# EAGLE library part SN74V245-7PAG (library SN74V245-7PAG)
SN74V245-7PAG, FIFO Memory Dual 4K x 18 bit Uni-Directional 5ns 133MHz 3.3V 64-Pin TQFP Source: Datasheet <https://datasheet.datasheetarchive.com/originals/distributors/Datasheets-302/22351.pdf>
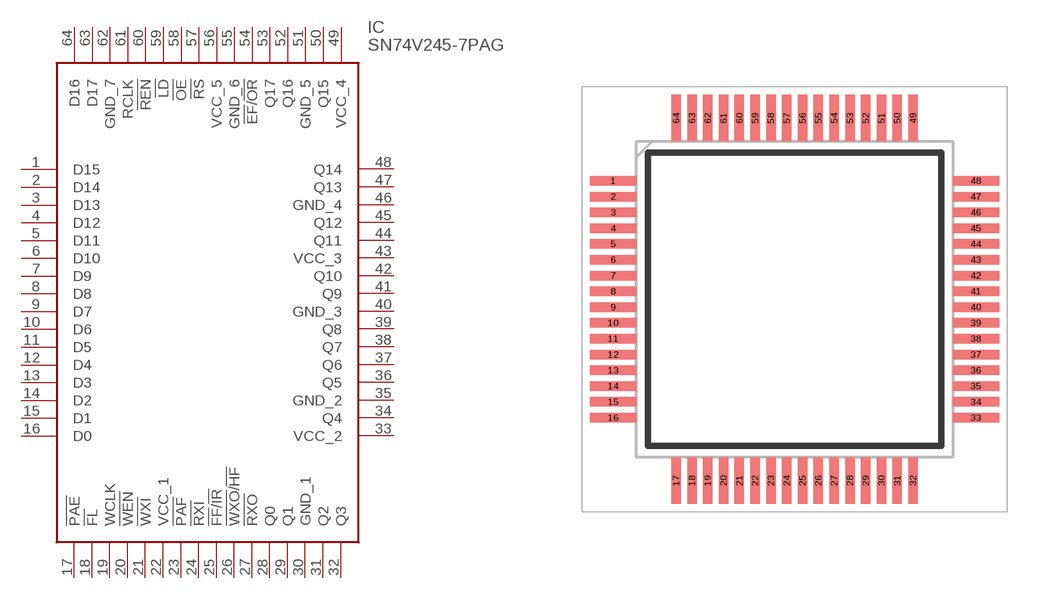
[diagram p0: symbol with the pads of QFP50P1200X1200X120-64N; footprint QFP50P1200X1200X120-64N]

Designator prefix IC

## SN74V245-7PAG (Arrow_Part_Number: SN74V245-7PAG; Arrow_Price-Stock: https://www.arrow.com/en/products/sn74v245-7pag/texas-instruments; Description: SN74V245-7PAG, FIFO Memory Dual 4K x 18 bit Uni-Directional 5ns 133MHz 3.3V 64-Pin TQFP; Height: 1.2mm; Manufacturer_Name: Texas Instruments; Manufacturer_Part_Number: SN74V245-7PAG; Mouser_Part_Number: 595-SN74V245-7PAG; Mouser_Price-Stock: https://www.mouser.co.uk/ProductDetail/Texas-Instruments/SN74V245-7PAG?qs=Dqy2GfToSoQLhS6JABn06g%3D%3D)  [QFP50P1200X1200X120-64N]
1  D15
2  D14
3  D13
4  D12
5  D11
6  D10
7  D9
8  D8
9  D7
10  D6
11  D5
12  D4
13  D3
14  D2
15  D1
16  D0
17  !PAE
18  !FL
19  WCLK
20  !WEN
21  !WXI
22  VCC_1
23  !PAF
24  !RXI
25  !FF!/!IR
26  !WXO!/!HF
27  !RXO
28  Q0
29  Q1
30  GND_1
31  Q2
32  Q3
33  VCC_2
34  Q4
35  GND_2
36  Q5
37  Q6
38  Q7
39  Q8
40  GND_3
41  Q9
42  Q10
43  VCC_3
44  Q11
45  Q12
46  GND_4
47  Q13
48  Q14
49  VCC_4
50  Q15
51  GND_5
52  Q16
53  Q17
54  !EF!/!OR
55  GND_6
56  VCC_5
57  !RS
58  !OE
59  !LD
60  !REN
61  RCLK
62  GND_7
63  D17
64  D16

## Footprint QFP50P1200X1200X120-64N (pad centres in mm)
PAG (S-PQFP-G64)
smd 1.475 x 0.3: 1 -5.738,3.75; 2 -5.738,3.25; 3 -5.738,2.75; 4 -5.738,2.25; 5 -5.738,1.75; 6 -5.738,1.25; 7 -5.738,0.75; 8 -5.738,0.25; 9 -5.738,-0.25; 10 -5.738,-0.75; 11 -5.738,-1.25; 12 -5.738,-1.75; 13 -5.738,-2.25; 14 -5.738,-2.75; 15 -5.738,-3.25; 16 -5.738,-3.75; 33 5.738,-3.75; 34 5.738,-3.25; 35 5.738,-2.75; 36 5.738,-2.25; 37 5.738,-1.75; 38 5.738,-1.25; 39 5.738,-0.75; 40 5.738,-0.25; 41 5.738,0.25; 42 5.738,0.75; 43 5.738,1.25; 44 5.738,1.75; 45 5.738,2.25; 46 5.738,2.75; 47 5.738,3.25; 48 5.738,3.75
smd 0.3 x 1.475: 17 -3.75,-5.738; 18 -3.25,-5.738; 19 -2.75,-5.738; 20 -2.25,-5.738; 21 -1.75,-5.738; 22 -1.25,-5.738; 23 -0.75,-5.738; 24 -0.25,-5.738; 25 0.25,-5.738; 26 0.75,-5.738; 27 1.25,-5.738; 28 1.75,-5.738; 29 2.25,-5.738; 30 2.75,-5.738; 31 3.25,-5.738; 32 3.75,-5.738; 49 3.75,5.738; 50 3.25,5.738; 51 2.75,5.738; 52 2.25,5.738; 53 1.75,5.738; 54 1.25,5.738; 55 0.75,5.738; 56 0.25,5.738; 57 -0.25,5.738; 58 -0.75,5.738; 59 -1.25,5.738; 60 -1.75,5.738; 61 -2.25,5.738; 62 -2.75,5.738; 63 -3.25,5.738; 64 -3.75,5.738